# EAGLE library part USB3076-XX-X_REVC (library USB3076-XX-X_REVC)
Micro USB Receptacle, Type B, SMT, Horizontal, Bottom Mount w/out Peg, w/out Shell Stakes, w/out Mating Face Lead-In Check prices <https://pricing.snapeda.com/parts/USB3076-30-A/Global%20Connector%20Technology/view-part?ref=eda>
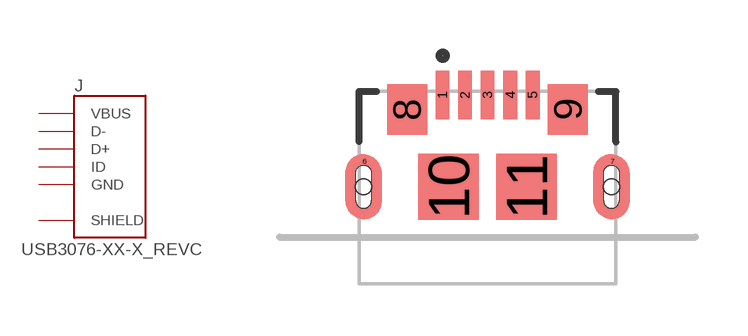
[diagram p0: symbol with the pads of GCT_USB3076-XX-X_REVC; footprint GCT_USB3076-XX-X_REVC]

Designator prefix J

## USB3076-XX-X_REVC (AVAILABILITY: In Stock; DESCRIPTION: USB - micro B USB 2.0 Receptacle Connector 5 Position Surface Mount, Right Angle; Through Hole, 2.35mm profile, 5 Pins, Horizontal, Bottom mount; MF: Global Connector Technology; MP: USB3076-30-A; PACKAGE: None; PRICE: None)  [GCT_USB3076-XX-X_REVC]
1  VBUS  pwr
2  D-
3  D+
4  ID
5  GND  pwr
6  SHIELD  pwr
7  SHIELD  pwr
8  SHIELD  pwr
9  SHIELD  pwr
10  SHIELD  pwr
11  SHIELD  pwr

## Footprint GCT_USB3076-XX-X_REVC (pad centres in mm)
smd 0.4 x 1.4: 1 -1.3,2.65; 2 -0.65,2.65; 3 0,2.65; 4 0.66,2.65; 5 1.3,2.65
smd 0.1 x 0.1: 6 -3.549,0.73; 7 3.601,0.73
smd 1.15 x 1.45: 8 -2.32,2.23; 9 2.32,2.23
smd 1.75 x 1.9: 10 -1.125,0; 11 1.125,0
hole 0.45 at -3.575,0
hole 0.45 at 3.575,0